# EAGLE library part 691411710023 (library Wurth_Elektronik_Electromechanic_Terminal_Blocks_Connectors_rev16b)
WR-TBL Terminal block - serie 411 5,0mm - Spring clamp/Screw less - Horizontal entry - 24p Code:Con_TBL_Screwless_5.00_6914117100xxB Created 2014-12-22, aslant tao 2014 (C) Würth Elektronik
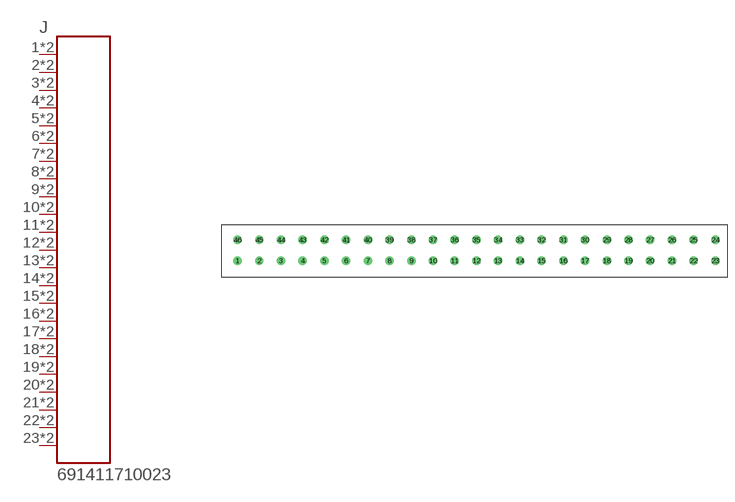
[diagram p289: symbol with the pads of 691411710023; footprint 691411710023]

Designator prefix J

## 691411710023  [691411710023]
1  1  pas
2  2  pas
3  3  pas
4  4  pas
5  5  pas
6  6  pas
7  7  pas
8  8  pas
9  9  pas
10  10  pas
11  11  pas
12  12  pas
13  13  pas
14  14  pas
15  15  pas
16  16  pas
17  17  pas
18  18  pas
19  19  pas
20  20  pas
21  21  pas
22  22  pas
23  23  pas
24  23  pas
25  22  pas
26  21  pas
27  20  pas
28  19  pas
29  18  pas
30  17  pas
31  16  pas
32  15  pas
33  14  pas
34  13  pas
35  12  pas
36  11  pas
37  10  pas
38  9  pas
39  8  pas
40  7  pas
41  6  pas
42  5  pas
43  4  pas
44  3  pas
45  2  pas
46  1  pas

## Footprint 691411710023 (pad centres in mm)
WR-TBL Serie 411 - 5.0mm Screwless Horizontal Entry - 2 mm2 Wires, 23 Pins
drill 1.3: 1 -5,0; 2 0,0; 3 5,0; 4 10,0; 5 15,0; 6 20,0; 7 25,0; 8 30,0; 9 35,0; 10 40,0; 11 45,0; 12 50,0; 13 55,0; 14 60,0; 15 65,0; 16 70,0; 17 75,0; 18 80,0; 19 85,0; 20 90,0; 21 95,0; 22 100,0; 23 105,0; 24 105,4.8; 25 100,4.8; 26 95,4.8; 27 90,4.8; 28 85,4.8; 29 80,4.8; 30 75,4.8; 31 70,4.8; 32 65,4.8; 33 60,4.8; 34 55,4.8; 35 50,4.8; 36 45,4.8; 37 40,4.8; 38 35,4.8; 39 30,4.8; 40 25,4.8; 41 20,4.8; 42 15,4.8; 43 10,4.8; 44 5,4.8; 45 0,4.8; 46 -5,4.8